# Altium schematic symbol library ZM5304.Schlib: 1 symbol
Pins are listed as number, name and electrical type; pins without a type are passive.

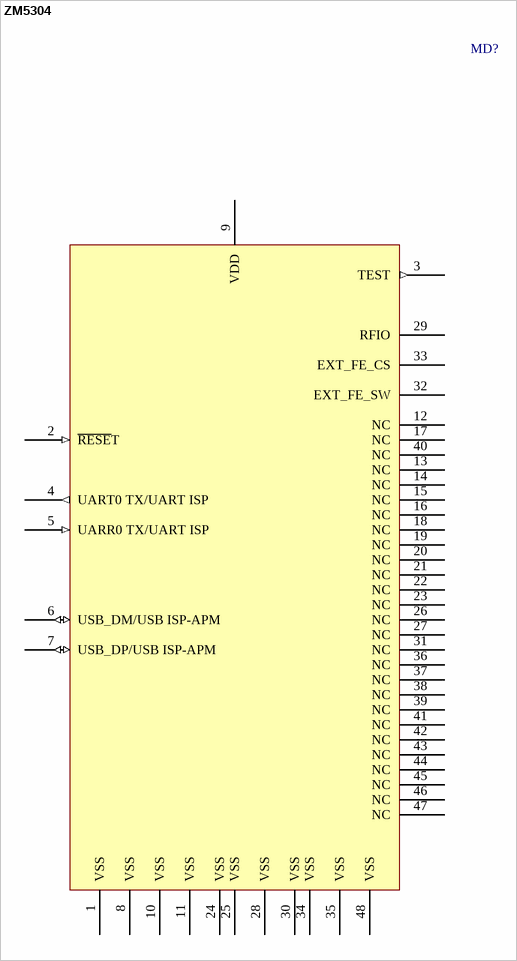
[diagram p0: symbol ZM5304]

## ZM5304
designator MD?
=Description
pins: 1 VSS (power), 2 ~{RESE}T (in), 3 TEST (out), 4 UART0 TX/UART ISP (out), 5 UARR0 TX/UART ISP (in), 6 USB_DM/USB ISP-APM (io), 7 USB_DP/USB ISP-APM (io), 8 VSS (power), 9 VDD (power), 10 VSS (power), 11 VSS (power), 12 NC, 13 NC, 14 NC, 15 NC, 16 NC, 17 NC, 18 NC, 19 NC, 20 NC, 21 NC, 22 NC, 23 NC, 24 VSS (power), 25 VSS (power), 26 NC, 27 NC, 28 VSS (power), 29 RFIO, 30 VSS (power), 31 NC, 32 EXT_FE_SW, 33 EXT_FE_CS, 34 VSS (power), 35 VSS (power), 36 NC, 37 NC, 38 NC, 39 NC, 40 NC, 41 NC, 42 NC, 43 NC, 44 NC, 45 NC, 46 NC, 47 NC, 48 VSS (power)